# Altium integrated library Altium_SMD_Resister.IntLib: 493 symbols (part 4 of 8)
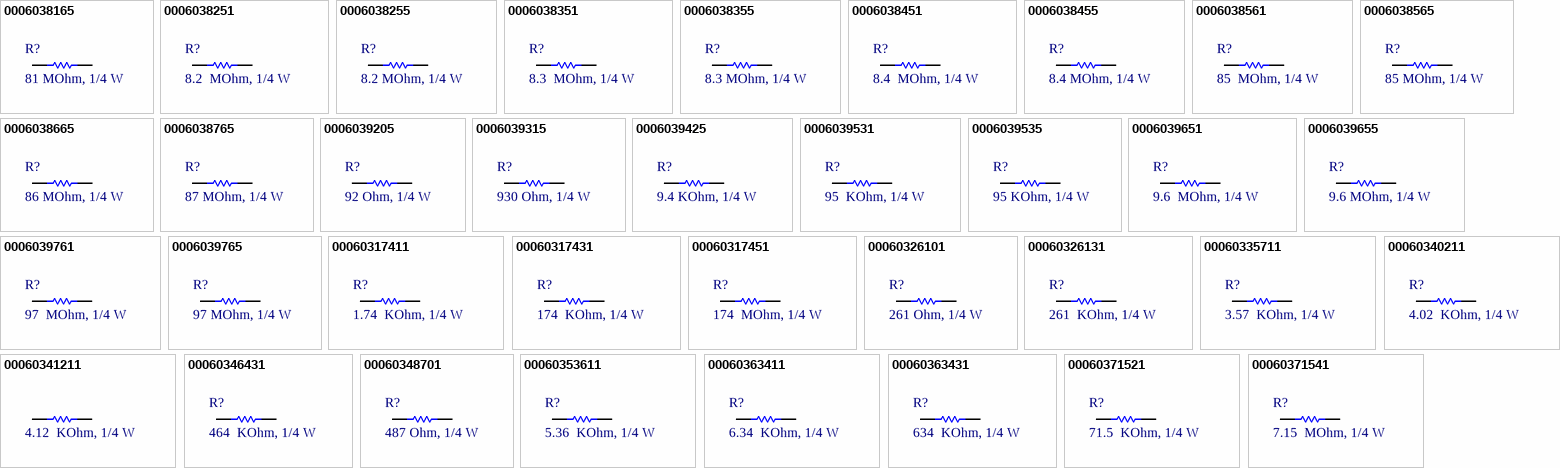
[diagram p15: symbols 0006038165 to 00060371541]

## 0006038455
designator R?, comment 8.4 MOhm, 1/4 W
RES, size 0805, 8.4 MOhm, 1/4 W; Manufacture  Name: OEM; Rated Power: 1/4 W; Resistance Tolerant: +/-5%; Size: 0603; Mounting Technology: SMT; Datasheet: N/A; Resistance: 8.4 MOhm; Supplier 1 Name: Mouser; Supplier 1 SN: N/A; Supplier 1 URL: N/A; Supplier 2 Name: Digi-Key; Supplier 2 SN: N/A; Supply 2 URL: N/A; Supplier 3 Name: Thegioiic; Supplier 3 SN: N/A; Supplier 3 URL: N/A; Manufacture  SN: OEM; Value: 8.4 MOhm, 1/4 W
footprint resistor_0603
pins: 1, 2

## 0006038561
designator R?, comment 85  MOhm, 1/4 W
RES, size 0805, 85  MOhm, 1/4 W; Manufacture  Name: OEM; Rated Power: 1/4 W; Resistance: 85  MOhm; Resistance Tolerant: +/-1%; Size: 0603; Mounting Technology: SMT; Datasheet: N/A; Supplier 1 Name: Mouser; Supplier 1 SN: N/A; Supplier 1 URL: N/A; Supplier 2 Name: Digi-Key; Supplier 2 SN: N/A; Supply 2 URL: N/A; Supplier 3 Name: Thegioiic; Supplier 3 SN: N/A; Supplier 3 URL: N/A; Manufacture  SN: OEM; Value: 85  MOhm, 1/4 W
footprint resistor_0603
pins: 1, 2

## 0006038565
designator R?, comment 85 MOhm, 1/4 W
RES, size 0805, 85 MOhm, 1/4 W; Manufacture  Name: OEM; Rated Power: 1/4 W; Resistance: 85 MOhm; Resistance Tolerant: +/-5%; Size: 0603; Mounting Technology: SMT; Datasheet: N/A; Supplier 1 Name: Mouser; Supplier 1 SN: N/A; Supplier 1 URL: N/A; Supplier 2 Name: Digi-Key; Supplier 2 SN: N/A; Supply 2 URL: N/A; Supplier 3 Name: Thegioiic; Supplier 3 SN: N/A; Supplier 3 URL: N/A; Manufacture  SN: OEM; Value: 85 MOhm, 1/4 W
footprint resistor_0603
pins: 1, 2

## 0006038665
designator R?, comment 86 MOhm, 1/4 W
RES, size 0805, 86 MOhm, 1/4 W; Manufacture  Name: OEM; Rated Power: 1/4 W; Resistance: 86 MOhm; Resistance Tolerant: +/-5%; Size: 0603; Mounting Technology: SMT; Datasheet: N/A; Supplier 1 Name: Mouser; Supplier 1 SN: N/A; Supplier 1 URL: N/A; Supplier 2 Name: Digi-Key; Supplier 2 SN: N/A; Supply 2 URL: N/A; Supplier 3 Name: Thegioiic; Supplier 3 SN: N/A; Supplier 3 URL: N/A; Manufacture  SN: OEM; Value: 86 MOhm, 1/4 W
footprint resistor_0603
pins: 1, 2

## 0006038765
designator R?, comment 87 MOhm, 1/4 W
RES, size 0805, 87 MOhm, 1/4 W; Manufacture  Name: OEM; Rated Power: 1/4 W; Resistance: 87 MOhm; Resistance Tolerant: +/-5%; Size: 0603; Mounting Technology: SMT; Datasheet: N/A; Supplier 1 Name: Mouser; Supplier 1 SN: N/A; Supplier 1 URL: N/A; Supplier 2 Name: Digi-Key; Supplier 2 SN: N/A; Supply 2 URL: N/A; Supplier 3 Name: Thegioiic; Supplier 3 SN: N/A; Supplier 3 URL: N/A; Manufacture  SN: OEM; Value: 87 MOhm, 1/4 W
footprint resistor_0603
pins: 1, 2

## 0006039205
designator R?, comment 92 Ohm, 1/4 W
RES, size 0805, 92 Ohm, 1/4 W; Manufacture  Name: OEM; Rated Power: 1/4 W; Resistance: 92 Ohm; Resistance Tolerant: +/-5%; Size: 0603; Mounting Technology: SMT; Datasheet: N/A; Supplier 1 Name: Mouser; Supplier 1 SN: N/A; Supplier 1 URL: N/A; Supplier 2 Name: Digi-Key; Supplier 2 SN: N/A; Supply 2 URL: N/A; Supplier 3 Name: Thegioiic; Supplier 3 SN: N/A; Supplier 3 URL: N/A; Manufacture  SN: OEM; Value: 92 Ohm, 1/4 W
footprint resistor_0603
pins: 1, 2

## 0006039315
designator R?, comment 930 Ohm, 1/4 W
RES, size 0805, 930 Ohm, 1/4 W; Manufacture  Name: OEM; Rated Power: 1/4 W; Resistance: 930 Ohm; Resistance Tolerant: +/-5%; Size: 0603; Mounting Technology: SMT; Datasheet: N/A; Supplier 1 Name: Mouser; Supplier 1 SN: N/A; Supplier 1 URL: N/A; Supplier 2 Name: Digi-Key; Supplier 2 SN: N/A; Supply 2 URL: N/A; Supplier 3 Name: Thegioiic; Supplier 3 SN: N/A; Supplier 3 URL: N/A; Manufacture  SN: OEM; Value: 930 Ohm, 1/4 W
footprint resistor_0603
pins: 1, 2

## 0006039425
designator R?, comment 9.4 KOhm, 1/4 W
RES, size 0805, 9.4 KOhm, 1/4 W; Manufacture  Name: OEM; Rated Power: 1/4 W; Resistance Tolerant: +/-5%; Size: 0603; Mounting Technology: SMT; Datasheet: N/A; Resistance: 9.4 KOhm; Supplier 1 Name: Mouser; Supplier 1 SN: N/A; Supplier 1 URL: N/A; Supplier 2 Name: Digi-Key; Supplier 2 SN: N/A; Supply 2 URL: N/A; Supplier 3 Name: Thegioiic; Supplier 3 SN: N/A; Supplier 3 URL: N/A; Manufacture  SN: OEM; Value: 9.4 KOhm, 1/4 W
footprint resistor_0603
pins: 1, 2

## 0006039531
designator R?, comment 95  KOhm, 1/4 W
RES, size 0805, 95  KOhm, 1/4 W; Manufacture  Name: OEM; Rated Power: 1/4 W; Resistance: 95  KOhm; Resistance Tolerant: +/-1%; Size: 0603; Mounting Technology: SMT; Datasheet: N/A; Supplier 1 Name: Mouser; Supplier 1 SN: N/A; Supplier 1 URL: N/A; Supplier 2 Name: Digi-Key; Supplier 2 SN: N/A; Supply 2 URL: N/A; Supplier 3 Name: Thegioiic; Supplier 3 SN: N/A; Supplier 3 URL: N/A; Manufacture  SN: OEM; Value: 95  KOhm, 1/4 W
footprint resistor_0603
pins: 1, 2

## 0006039535
designator R?, comment 95 KOhm, 1/4 W
RES, size 0805, 95 KOhm, 1/4 W; Manufacture  Name: OEM; Rated Power: 1/4 W; Resistance: 95 KOhm; Resistance Tolerant: +/-5%; Size: 0603; Mounting Technology: SMT; Datasheet: N/A; Supplier 1 Name: Mouser; Supplier 1 SN: N/A; Supplier 1 URL: N/A; Supplier 2 Name: Digi-Key; Supplier 2 SN: N/A; Supply 2 URL: N/A; Supplier 3 Name: Thegioiic; Supplier 3 SN: N/A; Supplier 3 URL: N/A; Manufacture  SN: OEM; Value: 95 KOhm, 1/4 W
footprint resistor_0603
pins: 1, 2

## 0006039651
designator R?, comment 9.6  MOhm, 1/4 W
RES, size 0805, 9.6  MOhm, 1/4 W; Manufacture  Name: OEM; Rated Power: 1/4 W; Resistance Tolerant: +/-1%; Size: 0603; Mounting Technology: SMT; Datasheet: N/A; Resistance: 9.6  MOhm; Supplier 1 Name: Mouser; Supplier 1 SN: N/A; Supplier 1 URL: N/A; Supplier 2 Name: Digi-Key; Supplier 2 SN: N/A; Supply 2 URL: N/A; Supplier 3 Name: Thegioiic; Supplier 3 SN: N/A; Supplier 3 URL: N/A; Manufacture  SN: OEM; Value: 9.6  MOhm, 1/4 W
footprint resistor_0603
pins: 1, 2

## 0006039655
designator R?, comment 9.6 MOhm, 1/4 W
RES, size 0805, 9.6 MOhm, 1/4 W; Manufacture  Name: OEM; Rated Power: 1/4 W; Resistance Tolerant: +/-5%; Size: 0603; Mounting Technology: SMT; Datasheet: N/A; Resistance: 9.6 MOhm; Supplier 1 Name: Mouser; Supplier 1 SN: N/A; Supplier 1 URL: N/A; Supplier 2 Name: Digi-Key; Supplier 2 SN: N/A; Supply 2 URL: N/A; Supplier 3 Name: Thegioiic; Supplier 3 SN: N/A; Supplier 3 URL: N/A; Manufacture  SN: OEM; Value: 9.6 MOhm, 1/4 W
footprint resistor_0603
pins: 1, 2

## 0006039761
designator R?, comment 97  MOhm, 1/4 W
RES, size 0805, 97  MOhm, 1/4 W; Manufacture  Name: OEM; Rated Power: 1/4 W; Resistance: 97  MOhm; Resistance Tolerant: +/-1%; Size: 0603; Mounting Technology: SMT; Datasheet: N/A; Supplier 1 Name: Mouser; Supplier 1 SN: N/A; Supplier 1 URL: N/A; Supplier 2 Name: Digi-Key; Supplier 2 SN: N/A; Supply 2 URL: N/A; Supplier 3 Name: Thegioiic; Supplier 3 SN: N/A; Supplier 3 URL: N/A; Manufacture  SN: OEM; Value: 97  MOhm, 1/4 W
footprint resistor_0603
pins: 1, 2

## 0006039765
designator R?, comment 97 MOhm, 1/4 W
RES, size 0805, 97 MOhm, 1/4 W; Manufacture  Name: OEM; Rated Power: 1/4 W; Resistance: 97 MOhm; Resistance Tolerant: +/-5%; Size: 0603; Mounting Technology: SMT; Datasheet: N/A; Supplier 1 Name: Mouser; Supplier 1 SN: N/A; Supplier 1 URL: N/A; Supplier 2 Name: Digi-Key; Supplier 2 SN: N/A; Supply 2 URL: N/A; Supplier 3 Name: Thegioiic; Supplier 3 SN: N/A; Supplier 3 URL: N/A; Manufacture  SN: OEM; Value: 97 MOhm, 1/4 W
footprint resistor_0603
pins: 1, 2

## 00060317411
designator R?, comment 1.74  KOhm, 1/4 W
RES, size 0805, 1.74  KOhm, 1/4 W; Manufacture  Name: OEM; Rated Power: 1/4 W; Resistance Tolerant: +/-1%; Size: 0603; Mounting Technology: SMT; Datasheet: N/A; Resistance: 1.74  KOhm; Supplier 1 Name: Mouser; Supplier 1 SN: 652-CR0603FX-1741ELF; Supplier 1 URL: https://www.mouser.vn/ProductDetail/Bourns/CR0603-FX-1741ELF?qs=zx2075yZkZJRxafDX05PxQ%3D%3D; Supplier 2 Name: Digi-Key; Supplier 2 SN: 311-1.74KHRTR-ND; Supply 2 URL: https://www.digikey.com/en/products/detail/yageo/RC0603FR-071K74L/726872; Supplier 3 Name: Thegioiic; Supplier 3 SN: N/A; Supplier 3 URL: N/A; Manufacture  SN: OEM; Value: 1.74  KOhm, 1/4 W
footprint resistor_0603
pins: 1, 2

## 00060317431
designator R?, comment 174  KOhm, 1/4 W
RES, size 0805, 174  KOhm, 1/4 W; Manufacture  Name: OEM; Rated Power: 1/4 W; Resistance Tolerant: +/-1%; Size: 0603; Mounting Technology: SMT; Datasheet: N/A; Resistance: 174  KOhm; Supplier 1 Name: Mouser; Supplier 1 SN: 652-CR0603FX-1743ELF; Supplier 1 URL: https://www.mouser.vn/ProductDetail/Bourns/CR0603-FX-1743ELF?qs=zx2075yZkZJGZPfH16YNVA%3D%3D; Supplier 2 Name: Digi-Key; Supplier 2 SN: 311-174KHRTR-ND; Supply 2 URL: https://www.digikey.com/en/products/detail/yageo/RC0603FR-07174KL/726985; Supplier 3 Name: Thegioiic; Supplier 3 SN: N/A; Supplier 3 URL: N/A; Manufacture  SN: OEM; Value: 174  KOhm, 1/4 W
footprint resistor_0603
pins: 1, 2

## 00060317451
designator R?, comment 174  MOhm, 1/4 W
RES, size 0805, 174  MOhm, 1/4 W; Manufacture  Name: OEM; Rated Power: 1/4 W; Resistance Tolerant: +/-1%; Size: 0603; Mounting Technology: SMT; Datasheet: N/A; Resistance: 174  MOhm; Supplier 1 Name: Mouser; Supplier 1 SN: 303-0603WAF1745T5E; Supplier 1 URL: https://www.mouser.vn/ProductDetail/Royalohm/0603WAF1745T5E?qs=e8oIoAS2J1TZruGg9o9nsw%3D%3D; Supplier 2 Name: Digi-Key; Supplier 2 SN: N/A; Supply 2 URL: N/A; Supplier 3 Name: Thegioiic; Supplier 3 SN: N/A; Supplier 3 URL: N/A; Manufacture  SN: OEM; Value: 174  MOhm, 1/4 W
footprint resistor_0603
pins: 1, 2

## 00060326101
designator R?, comment 261 Ohm, 1/4 W
RES, size 0805, 261 Ohm, 1/4 W; Manufacture  Name: OEM; Rated Power: 1/4 W; Resistance: 261 Ohm; Resistance Tolerant: +/-1%; Size: 0603; Mounting Technology: SMT; Datasheet: N/A; Supplier 1 Name: Mouser; Supplier 1 SN: 652-CR0603FX-2610ELF; Supplier 1 URL: https://www.mouser.vn/ProductDetail/Bourns/CR0603-FX-2610ELF?qs=I4suiNu8FYAPozqcSssc3g%3D%3D; Supplier 2 Name: Digi-Key; Supplier 2 SN: 311-261HRTR-ND; Supply 2 URL: https://www.digikey.com/en/products/detail/yageo/RC0603FR-07261RL/727095; Supplier 3 Name: Thegioiic; Supplier 3 SN: N/A; Supplier 3 URL: N/A; Manufacture  SN: OEM; Value: 261 Ohm, 1/4 W
footprint resistor_0603
pins: 1, 2

## 00060326131
designator R?, comment 261  KOhm, 1/4 W
RES, size 0805, 261  KOhm, 1/4 W; Manufacture  Name: OEM; Rated Power: 1/4 W; Resistance Tolerant: +/-1%; Size: 0603; Mounting Technology: SMT; Datasheet: N/A; Resistance: 261  KOhm; Supplier 1 Name: Mouser; Supplier 1 SN: 71-CRCW0603-261K-E3; Supplier 1 URL: https://www.mouser.vn/ProductDetail/Vishay-Dale/CRCW0603261KFKEA?qs=ZY%2FA15UmqnC8j%252BzPQatghA%3D%3D; Supplier 2 Name: Digi-Key; Supplier 2 SN: 311-261KHRTR-ND; Supply 2 URL: https://www.digikey.com/en/products/detail/yageo/RC0603FR-07261KL/727096; Supplier 3 Name: Thegioiic; Supplier 3 SN: N/A; Supplier 3 URL: N/A; Manufacture  SN: OEM; Value: 261  KOhm, 1/4 W
footprint resistor_0603
pins: 1, 2

## 00060335711
designator R?, comment 3.57  KOhm, 1/4 W
RES, size 0805, 3.57  KOhm, 1/4 W; Manufacture  Name: OEM; Rated Power: 1/4 W; Resistance Tolerant: +/-1%; Size: 0603; Mounting Technology: SMT; Datasheet: N/A; Resistance: 3.57  KOhm; Supplier 1 Name: Mouser; Supplier 1 SN: 755-SDR03EZPF3571; Supplier 1 URL: https://www.mouser.vn/ProductDetail/ROHM-Semiconductor/SDR03EZPF3571?qs=MyNHzdoqoQLQWlSf8qqG2w%3D%3D; Supplier 2 Name: Digi-Key; Supplier 2 SN: 311-3.57KHRTR-ND; Supply 2 URL: https://www.digikey.com/en/products/detail/yageo/RC0603FR-073K57L/727131; Supplier 3 Name: Thegioiic; Supplier 3 SN: N/A; Supplier 3 URL: N/A; Manufacture  SN: OEM; Value: 3.57  KOhm, 1/4 W
footprint resistor_0603
pins: 1, 2

## 00060340211
designator R?, comment 4.02  KOhm, 1/4 W
RES, size 0805, 4.02  KOhm, 1/4 W; Manufacture  Name: OEM; Rated Power: 1/4 W; Resistance Tolerant: +/-1%; Size: 0603; Mounting Technology: SMT; Datasheet: N/A; Resistance: 4.02  KOhm; Supplier 1 Name: Mouser; Supplier 1 SN: 71-CRCW0603-4.02K-E3; Supplier 1 URL: https://www.mouser.vn/ProductDetail/Vishay-Dale/CRCW06034K02FKEA?qs=ePVmox3SMzYmoL%252BtsFsAuw%3D%3D; Supplier 2 Name: Digi-Key; Supplier 2 SN: 311-4.02KHRTR-ND; Supply 2 URL: https://www.digikey.com/en/products/detail/yageo/RC0603FR-074K02L/727203; Supplier 3 Name: Thegioiic; Supplier 3 SN: N/A; Supplier 3 URL: N/A; Manufacture  SN: OEM; Value: 4.02  KOhm, 1/4 W
footprint resistor_0603
pins: 1, 2

## 00060341211
designator ?, comment 4.12  KOhm, 1/4 W
RES, size 0805, 4.12  KOhm, 1/4 W; Manufacture  Name: OEM; Rated Power: 1/4 W; Resistance Tolerant: +/-1%; Size: 0603; Mounting Technology: SMT; Datasheet: N/A; Resistance: 4.12  KOhm; Supplier 1 Name: Mouser; Supplier 1 SN: 71-CRCW0603-4.12K-E3; Supplier 1 URL: https://www.mouser.vn/ProductDetail/Vishay-Dale/CRCW06034K12FKEA?qs=7VR27ARAOdnkRSfILZFcCQ%3D%3D; Supplier 2 Name: Digi-Key; Supplier 2 SN: 311-4.02KHRTR-ND; Supply 2 URL: https://www.digikey.com/en/products/detail/yageo/RC0603FR-074K02L/727203; Supplier 3 Name: Thegioiic; Supplier 3 SN: N/A; Supplier 3 URL: N/A; Manufacture  SN: OEM; Value: 4.12  KOhm, 1/4 W
footprint resistor_0603
pins: 1, 2

## 00060346431
designator R?, comment 464  KOhm, 1/4 W
RES, size 0805, 464  KOhm, 1/4 W; Manufacture  Name: OEM; Rated Power: 1/4 W; Resistance Tolerant: +/-1%; Size: 0603; Mounting Technology: SMT; Datasheet: https://www.mouser.vn/datasheet/2/315/AOA0000C331-1141874.pdf; Resistance: 464  KOhm; Supplier 1 Name: Mouser; Supplier 1 SN: 667-ERJ-PA3F4643V; Supplier 1 URL: https://www.mouser.vn/ProductDetail/Panasonic/ERJ-PA3F4643V?qs=BzJM0faLVqXNplNA4jO3ww%3D%3D; Supplier 2 Name: Digi-Key; Supplier 2 SN: ERJ-PA3F4643V-ND - Tape & Reel (TR); Supply 2 URL: https://www.digikey.com/en/products/detail/panasonic-electronic-components/ERJ-PA3F4643V/5038117?s=N4IgTCBcDaIGxwOwFoCiAlAUsgCgQQGYAxAFjhIIDUQBdAXyA; Supplier 3 Name: Thegioiic; Supplier 3 SN: N/A; Supplier 3 URL: N/A; Manufacture  SN: OEM; Value: 464  KOhm, 1/4 W
footprint resistor_0603
pins: 1, 2

## 00060348701
designator R?, comment 487 Ohm, 1/4 W
RES, size 0805, 487 Ohm, 1/4 W; Manufacture  Name: OEM; Rated Power: 1/4 W; Resistance: 487 Ohm; Resistance Tolerant: +/-1%; Size: 0603; Mounting Technology: SMT; Datasheet: https://www.mouser.vn/datasheet/2/315/AOA0000C331-1141874.pdf; Supplier 1 Name: Mouser; Supplier 1 SN: 667-ERJ-PA3F4870V; Supplier 1 URL: https://www.mouser.vn/ProductDetail/Panasonic/ERJ-PA3F4870V?qs=BzJM0faLVqXoF%252BFTbHdjOQ%3D%3D; Supplier 2 Name: Digi-Key; Supplier 2 SN: ERJ-PA3F4870V-ND - Tape & Reel (TR); Supply 2 URL: https://www.digikey.com/en/products/detail/panasonic-electronic-components/ERJ-PA3F4870V/5037849?s=N4IgTCBcDaIGxwOwFoCiAlAUsgCgQQGYAxAFgA5EAGANRAF0BfIA; Supplier 3 Name: Thegioiic; Supplier 3 SN: N/A; Supplier 3 URL: N/A; Manufacture  SN: OEM; Value: 487 Ohm, 1/4 W
footprint resistor_0603
pins: 1, 2

## 00060353611
designator R?, comment 5.36  KOhm, 1/4 W
RES, size 0805, 5.36  KOhm, 1/4 W; Manufacture  Name: OEM; Rated Power: 1/4 W; Resistance Tolerant: +/-1%; Size: 0603; Mounting Technology: SMT; Datasheet: https://www.mouser.vn/datasheet/2/315/AOA0000C331-1141874.pdf; Resistance: 5.36  KOhm; Supplier 1 Name: Mouser; Supplier 1 SN: 667-ERJ-PA3F5361V; Supplier 1 URL: https://www.mouser.vn/ProductDetail/Panasonic/ERJ-PA3F5361V?qs=BzJM0faLVqV9HycZG6PMVQ%3D%3D; Supplier 2 Name: Digi-Key; Supplier 2 SN: ERJ-PA3F5361V-ND - Tape & Reel (TR); Supply 2 URL: https://www.digikey.com/en/products/detail/panasonic-electronic-components/ERJ-PA3F5361V/5037943?s=N4IgTCBcDaIGxwOwFoCiAlAUsgCgQQGYAxAVgLgEYA1EAXQF8g; Supplier 3 Name: Thegioiic; Supplier 3 SN: N/A; Supplier 3 URL: N/A; Manufacture  SN: OEM; Value: 5.36  KOhm, 1/4 W
footprint resistor_0603
pins: 1, 2

## 00060363411
designator R?, comment 6.34  KOhm, 1/4 W
RES, size 0805, 6.34  KOhm, 1/4 W; Manufacture  Name: OEM; Rated Power: 1/4 W; Resistance Tolerant: +/-1%; Size: 0603; Mounting Technology: SMT; Datasheet: N/A; Resistance: 6.34  KOhm; Supplier 1 Name: Mouser; Supplier 1 SN: 652-CR0805FX-6341ELF; Supplier 1 URL: https://www.mouser.vn/ProductDetail/Bourns/CR0805-FX-6341ELF?qs=LA9FZBosJlAK7SMOW8nAHg%3D%3D; Supplier 2 Name: Digi-Key; Supplier 2 SN: 311-6.34KHRTR-ND; Supply 2 URL: https://www.digikey.com/en/products/detail/yageo/RC0603FR-076K34L/727320; Supplier 3 Name: Thegioiic; Supplier 3 SN: N/A; Supplier 3 URL: N/A; Manufacture  SN: OEM; Value: 6.34  KOhm, 1/4 W
footprint resistor_0603
pins: 1, 2

## 00060363431
designator R?, comment 634  KOhm, 1/4 W
RES, size 0805, 634  KOhm, 1/4 W; Manufacture  Name: OEM; Rated Power: 1/4 W; Resistance Tolerant: +/-1%; Size: 0603; Mounting Technology: SMT; Datasheet: N/A; Resistance: 634  KOhm; Supplier 1 Name: Mouser; Supplier 1 SN: 652-CR0805FX-6343ELF; Supplier 1 URL: https://www.mouser.vn/ProductDetail/Bourns/CR0805-FX-6343ELF?qs=LA9FZBosJlBAKVRC2OUkqw%3D%3D; Supplier 2 Name: Digi-Key; Supplier 2 SN: 311-634KHRTR-ND; Supply 2 URL: https://www.digikey.com/en/products/detail/yageo/RC0603FR-07634KL/727342; Supplier 3 Name: Thegioiic; Supplier 3 SN: N/A; Supplier 3 URL: N/A; Manufacture  SN: OEM; Value: 634  KOhm, 1/4 W
footprint resistor_0603
pins: 1, 2

## 00060371521
designator R?, comment 71.5  KOhm, 1/4 W
RES, size 0805, 71.5  KOhm, 1/4 W; Manufacture  Name: OEM; Rated Power: 1/4 W; Resistance Tolerant: +/-1%; Size: 0603; Mounting Technology: SMT; Datasheet: N/A; Resistance: 71.5  KOhm; Supplier 1 Name: Mouser; Supplier 1 SN: N/A; Supplier 1 URL: N/A; Supplier 2 Name: Digi-Key; Supplier 2 SN: 311-71.5KHRTR-ND; Supply 2 URL: https://www.digikey.com/en/products/detail/yageo/RC0603FR-0771K5L/727370; Supplier 3 Name: Thegioiic; Supplier 3 SN: N/A; Supplier 3 URL: N/A; Manufacture  SN: OEM; Value: 71.5  KOhm, 1/4 W
footprint resistor_0603
pins: 1, 2

## 00060371541
designator R?, comment 7.15  MOhm, 1/4 W
RES, size 0805, 7.15  MOhm, 1/4 W; Manufacture  Name: OEM; Rated Power: 1/4 W; Resistance Tolerant: +/-1%; Size: 0603; Mounting Technology: SMT; Datasheet: N/A; Resistance: 7.15  MOhm; Supplier 1 Name: Mouser; Supplier 1 SN: 603-RC0201FR-077M15L; Supplier 1 URL: https://www.mouser.vn/ProductDetail/YAGEO/RC0201FR-077M15L?qs=lc2O%252BfHJPVagYgggyyCiyg%3D%3D; Supplier 2 Name: Digi-Key; Supplier 2 SN: 541-7.15MHTR-ND; Supply 2 URL: https://www.digikey.com/en/products/detail/vishay-dale/CRCW06037M15FKEA/1175108; Supplier 3 Name: Thegioiic; Supplier 3 SN: N/A; Supplier 3 URL: N/A; Manufacture  SN: OEM; Value: 7.15  MOhm, 1/4 W
footprint resistor_0603
pins: 1, 2


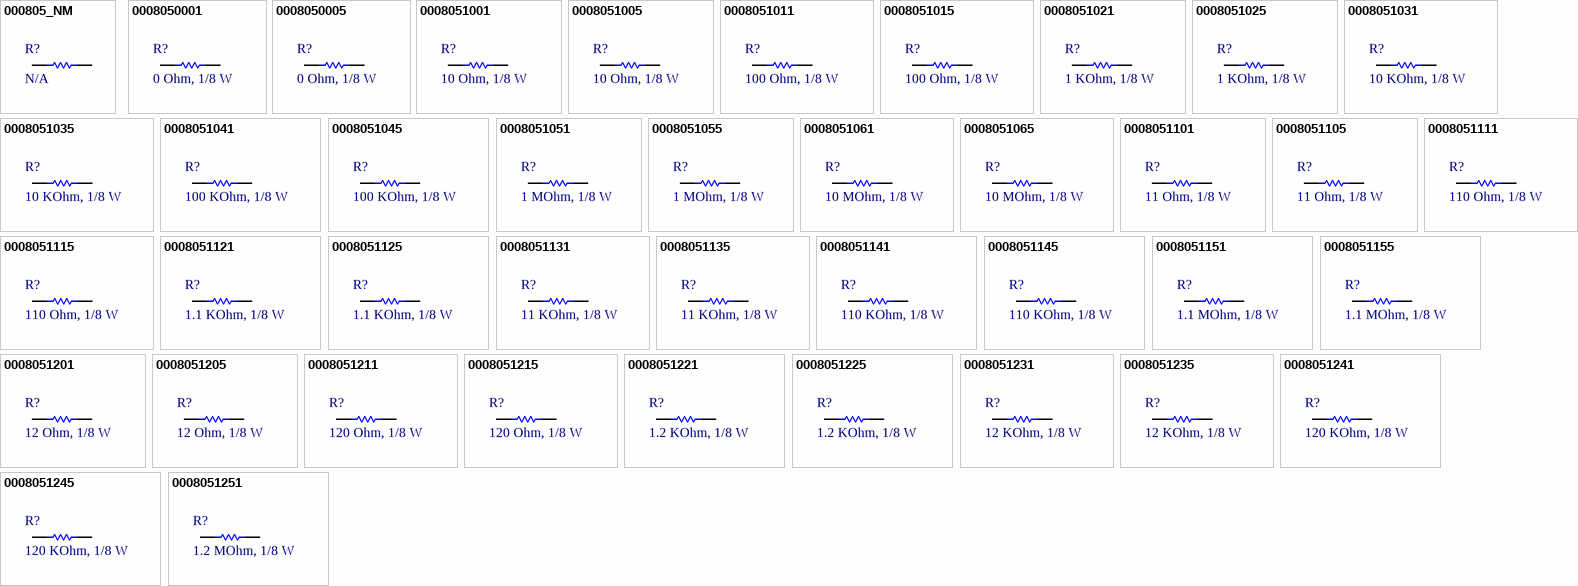
[diagram p6: symbols 000805_NM to 0008051251]

## 000805_NM
designator R?, comment N/A
RES, size 0805, NM; Rated Power: 1/8 W; Resistance tolerance: N/A; Size: 0805; Mounting Technology: SMT; Datasheet: N/A; Resistance: N/A; Supplier 1 Name: Mouser; Supplier 1 SN: N/A; Supplier 1 URL: N/A; Supplier 2 Name: Digi-Key; Supplier 2 SN: N/A; Supplier 2 URL: N/A; Supplier 3 Name: Thegioiic; Supplier 3 SN: N/A; Supplier 3 URL: N/A; Manufacture  Name: N/A; Manufacture  SN: N/A; Value: N/A
footprint RESISTOR_0805 (Chip Resistor, 2-Leads, Body 2,00x1,20mm, IPC Medium Density)
pins: 1, 2

## 0008050001
designator R?, comment 0 Ohm, 1/8 W
RES, size 0805, 0 Ohm, 1/8 W; Manufacture  Name: YAGEO; Manufacture  SN: RC0805FR-070RL; Resistance tolerance: +/-1%; Rated Power: 1/8 W; Resistance: 0 Ohm; Size: 0805; Mounting Technology: SMT; Datasheet: N/A; Supplier 1 Name: Mouser; Supplier 1 SN: 603-RC0805FR-070RL; Supplier 1 URL: https://www.mouser.com/ProductDetail/YAGEO/RC0805FR-070RL?qs=fRxXYNj8ftF6kXqh1XbZJQ%3D%3D; Supplier 2 Name: Digi-Key; Supplier 2 SN: 311-0.0CRTR-ND; Supplier 2 URL: https://www.digikey.com/en/products/detail/yageo/rc0805fr-070rl/2827620; Supplier 3 Name: Thegioiic; Supplier 3 SN: N/A; Supplier 3 URL: https://www.thegioiic.com/dien-tro-0-ohm-0805-1-; Value: 0 Ohm, 1/8 W
footprint RESISTOR_0805 (Chip Resistor, 2-Leads, Body 2,00x1,20mm, IPC Medium Density)
pins: 1, 2

## 0008050005
designator R?, comment 0 Ohm, 1/8 W
RES, size 0805, 0 Ohm, 1/8 W; Manufacture  Name: YAGEO; Manufacture  SN: RC0805JR-070RL; Resistance tolerance: +/-1%; Rated Power: 1/8 W; Resistance: 0 Ohm; Size: 0805; Mounting Technology: SMT; Datasheet: https://www.mouser.com/datasheet/2/447/PYu_AR_51_RoHS_L_7-3003081.pdf; Supplier 1 Name: Mouser; Supplier 1 SN: 603-RC0805JR-070RL; Supplier 1 URL: https://www.mouser.com/ProductDetail/YAGEO/RC0805JR-070RL?qs=3ldFlDWnkKyEhdaPjQHEFA%3D%3D; Supplier 2 Name: Digi-Key; Supplier 2 SN: 311-0.0ARTR-ND; Supplier 2 URL: https://www.digikey.com/en/products/detail/yageo/rc0805jr-070rl/728216; Supplier 3 Name: Thegioiic; Supplier 3 SN: N/A; Supplier 3 URL: https://www.thegioiic.com/dien-tro-0-ohm-0805-5-; Value: 0 Ohm, 1/8 W
footprint RESISTOR_0805 (Chip Resistor, 2-Leads, Body 2,00x1,20mm, IPC Medium Density)
pins: 1, 2

## 0008051001
designator R?, comment 10 Ohm, 1/8 W
RES, size 0805, 10 Ohm, 1/8 W; Manufacture  Name: Vishay Dale Thin Film; Manufacture  SN: M55342H06B10D0RT5; Resistance tolerance: +/-1%; Rated Power: 1/8 W; Resistance: 10 Ohm; Size: 0805; Mounting Technology: SMT; Datasheet: https://www.vishay.com/docs/60018/eh.pdf; Supplier 1 Name: Mouser; Supplier 1 SN: 71-CRCW080510R0FKEAH; Supplier 1 URL: https://www.mouser.vn/ProductDetail/Vishay-Dale/CRCW080510R0FKEAHP?qs=sGAEpiMZZMtlubZbdhIBIB2QTI7Ai3Wq221SUXRDybo%3D; Supplier 2 Name: Digi-Key; Supplier 2 SN: 764-M55342H06B10D0RT5TR-ND; Supplier 2 URL: https://www.digikey.com/en/products/detail/vishay-dale-thin-film/M55342H06B10D0RT5/3580812; Supplier 3 Name: Thegioiic; Supplier 3 SN: N/A; Supplier 3 URL: https://www.thegioiic.com/dien-tro-10-ohm-0805-1-; Value: 10 Ohm, 1/8 W
footprint RESISTOR_0805 (Chip Resistor, 2-Leads, Body 2,00x1,20mm, IPC Medium Density)
pins: 1, 2

## 0008051005
designator R?, comment 10 Ohm, 1/8 W
RES, size 0805, 10 Ohm, 1/8 W; Manufacture  Name: TE Connectivity Passive Product; Manufacture  SN: CRGCQ0805J10R; Resistance tolerance: +/-5%; Rated Power: 1/8 W; Resistance: 10 Ohm; Size: 0805; Mounting Technology: SMT; Datasheet: https://www.te.com/usa-en/product-2176342-7.datasheet.pdf; Supplier 1 Name: Mouser; Supplier 1 SN: 71-CRCW080510R0JNEB; Supplier 1 URL: https://www.mouser.vn/ProductDetail/Vishay-Dale/CRCW080510R0JNEB?qs=LOX6nxTstiYdzgklIYN6GQ%3D%3D; Supplier 2 Name: Digi-Key; Supplier 2 SN: A130122TR-ND; Supplier 2 URL: https://www.digikey.com/en/products/detail/vishay-dale-thin-film/M55342H06B10D0RT5/3580812; Supplier 3 Name: Thegioiic; Supplier 3 SN: N/A; Supplier 3 URL: https://www.thegioiic.com/dien-tro-10-ohm-0805-5-; Value: 10 Ohm, 1/8 W
footprint RESISTOR_0805 (Chip Resistor, 2-Leads, Body 2,00x1,20mm, IPC Medium Density)
pins: 1, 2

## 0008051011
designator R?, comment 100 Ohm, 1/8 W
RES, size 0805, 100 Ohm, 1/8 W; Manufacture  Name: Vishay Dale Thin Film; Manufacture  SN: CRCW0805100RFKEB; Resistance tolerance: +/-1%; Rated Power: 1/8 W; Resistance: 100 Ohm; Size: 0805; Mounting Technology: SMT; Datasheet: https://media.digikey.com/pdf/Data%20Sheets/Vishay%20Resistors/VSMP_Series_Z_Series_DS.pdf; Supplier 1 Name: Mouser; Supplier 1 SN: 71-CRCW0805100RFKEB; Supplier 1 URL: https://www.mouser.vn/ProductDetail/Vishay-Dale/CRCW0805100RFKEB?qs=sGAEpiMZZMtlubZbdhIBIKpw3Cj3Rl3MFHVHXIgVmtw%3D; Supplier 2 Name: Digi-Key; Supplier 2 SN: Y1624100R000F9R-ND; Supplier 2 URL: https://www.digikey.com/en/products/detail/vpg-foil-resistors/Y1624100R000F9R/6026579; Supplier 3 Name: Thegioiic; Supplier 3 SN: N/A; Supplier 3 URL: https://www.thegioiic.com/dien-tro-100-ohm-0805-1-; Value: 100 Ohm, 1/8 W
footprint RESISTOR_0805 (Chip Resistor, 2-Leads, Body 2,00x1,20mm, IPC Medium Density)
pins: 1, 2

## 0008051015
designator R?, comment 100 Ohm, 1/8 W
RES, size 0805, 100 Ohm, 1/8 W; Manufacture  Name: Vishay Dale; Manufacture  SN: CRCW0805100RJNEAC; Resistance tolerance: +/-5%; Rated Power: 1/8 W; Resistance: 100 Ohm; Size: 0805; Mounting Technology: SMT; Datasheet: https://www.vishay.com/docs/28773/crcwce3.pdf; Supplier 1 Name: Mouser; Supplier 1 SN: 71-CRCW0805100RJNEA; Supplier 1 URL: https://www.mouser.vn/ProductDetail/Vishay-Dale/CRCW0805100RJNEA?qs=LOX6nxTstiYU5x3Np6dR5Q%3D%3D; Supplier 2 Name: Digi-Key; Supplier 2 SN: 541-4166-2-ND; Supplier 2 URL: https://www.digikey.com/en/products/detail/vishay-dale/CRCW0805100RJNEAC/7928588; Supplier 3 Name: Thegioiic; Supplier 3 SN: N/A; Supplier 3 URL: https://www.thegioiic.com/dien-tro-100-ohm-0805-5; Value: 100 Ohm, 1/8 W
footprint RESISTOR_0805 (Chip Resistor, 2-Leads, Body 2,00x1,20mm, IPC Medium Density)
pins: 1, 2

## 0008051021
designator R?, comment 1 KOhm, 1/8 W
RES, size 0805, 1 KOhm, 1/8 W; Manufacture  Name: Vishay Dale; Manufacture  SN: M55342K06B1E00RS3; Resistance tolerance: +/-1%; Rated Power: 1/8 W; Resistance: 1 KOhm; Size: 0805; Mounting Technology: SMT; Datasheet: https://www.vishay.com/docs/31010/rcwpm.pdf; Supplier 1 Name: Mouser; Supplier 1 SN: N/A; Supplier 1 URL: N/A; Supplier 2 Name: Digi-Key; Supplier 2 SN: 1135-1001-2-ND; Supplier 2 URL: https://www.digikey.com/en/products/detail/vishay-dale/M55342K06B1E00RS3/2941798; Supplier 3 Name: Thegioiic; Supplier 3 SN: N/A; Supplier 3 URL: https://www.thegioiic.com/dien-tro-1-kohm-0805-1; Value: 1 KOhm, 1/8 W
footprint RESISTOR_0805 (Chip Resistor, 2-Leads, Body 2,00x1,20mm, IPC Medium Density)
pins: 1, 2

## 0008051025
designator R?, comment 1 KOhm, 1/8 W
RES, size 0805, 1 KOhm, 1/8 W; Manufacture  Name: Vishay Dale; Manufacture  SN: CRCW08051K00JNEAC; Resistance tolerance: +/-5%; Rated Power: 1/8 W; Resistance: 1 KOhm; Size: 0805; Mounting Technology: SMT; Datasheet: https://www.vishay.com/docs/28773/crcwce3.pdf; Supplier 1 Name: Mouser; Supplier 1 SN: 71-CRCW08051K00JNEC; Supplier 1 URL: https://www.mouser.vn/ProductDetail/Vishay-Dale/CRCW08051K00JNEC?qs=OW6ROCK%252BaiZqKFsNe9zjFw%3D%3D; Supplier 2 Name: Digi-Key; Supplier 2 SN: 541-4162-2-ND; Supplier 2 URL: https://www.digikey.com/en/products/detail/vishay-dale/CRCW08051K00JNEAC/7928584; Supplier 3 Name: Thegioiic; Supplier 3 SN: N/A; Supplier 3 URL: https://www.thegioiic.com/dien-tro-1-kohm-0805-5-; Value: 1 KOhm, 1/8 W
footprint RESISTOR_0805 (Chip Resistor, 2-Leads, Body 2,00x1,20mm, IPC Medium Density)
pins: 1, 2

## 0008051031
designator R?, comment 10 KOhm, 1/8 W
RES, size 0805, 10 KOhm, 1/8 W; Resistance tolerance: +/-1%; Rated Power: 1/8 W; Resistance: 10 KOhm; Size: 0805; Mounting Technology: SMT; Datasheet: N/A; Supplier 1 Name: Mouser; Supplier 1 SN: N/A; Supplier 1 URL: N/A; Supplier 2 Name: Digi-Key; Supplier 2 SN: N/A; Supplier 2 URL: N/A; Supplier 3 Name: Thegioiic; Supplier 3 SN: N/A; Supplier 3 URL: https://www.thegioiic.com/dien-tro-1-kohm-0805-1; Manufacture  Name: N/A; Manufacture  SN: N/A; Value: 10 KOhm, 1/8 W
footprint RESISTOR_0805 (Chip Resistor, 2-Leads, Body 2,00x1,20mm, IPC Medium Density)
pins: 1, 2

## 0008051035
designator R?, comment 10 KOhm, 1/8 W
RES, size 0805, 10 KOhm, 1/8 W; Manufacture  Name: Vishay Dale; Manufacture  SN: CRCW080510K0JNEAC; Resistance tolerance: +/-5%; Rated Power: 1/8 W; Resistance: 10 KOhm; Size: 0805; Mounting Technology: SMT; Datasheet: https://www.vishay.com/docs/28773/crcwce3.pdf; Supplier 1 Name: Mouser; Supplier 1 SN: 71-CRCW080510K0JNEB; Supplier 1 URL: https://www.mouser.vn/ProductDetail/Vishay-Dale/CRCW080510K0JNEB?qs=LOX6nxTstiZ5fn9YUdHx5A%3D%3D; Supplier 2 Name: Digi-Key; Supplier 2 SN: 541-4163-2-ND; Supplier 2 URL: https://www.digikey.com/en/products/detail/vishay-dale/CRCW080510K0JNEAC/7928585; Supplier 3 Name: Thegioiic; Supplier 3 SN: N/A; Supplier 3 URL: N/A; Value: 10 KOhm, 1/8 W
footprint RESISTOR_0805 (Chip Resistor, 2-Leads, Body 2,00x1,20mm, IPC Medium Density)
pins: 1, 2

## 0008051041
designator R?, comment 100 KOhm, 1/8 W
RES, size 0805, 100 KOhm, 1/8 W; Manufacture  Name: Vishay Dale; Manufacture  SN: M55342K06B100ERS3; Resistance tolerance: +/-1%; Rated Power: 1/8 W; Size: 0805; Mounting Technology: SMT; Datasheet: N/A; Resistance: 100 KOhm; Supplier 1 Name: Mouser; Supplier 1 SN: N/A; Supplier 1 URL: N/A; Supplier 2 Name: Digi-Key; Supplier 2 SN: 1135-1002-2-ND; Supplier 2 URL: https://www.digikey.com/en/products/detail/vishay-dale/M55342K06B100ERS3/2941800; Supplier 3 Name: Thegioiic; Supplier 3 SN: N/A; Supplier 3 URL: M55342K06B100ERS3; Value: 100 KOhm, 1/8 W
footprint RESISTOR_0805 (Chip Resistor, 2-Leads, Body 2,00x1,20mm, IPC Medium Density)
pins: 1, 2

## 0008051045
designator R?, comment 100 KOhm, 1/8 W
RES, size 0805, 100 KOhm, 1/8 W; Manufacture  Name: Vishay Dale; Manufacture  SN: CRCW0805100KJNEAC; Resistance tolerance: +/-5%; Rated Power: 1/8 W; Size: 0805; Mounting Technology: SMT; Datasheet: https://www.vishay.com/docs/28773/crcwce3.pdf; Resistance: 100 KOhm; Supplier 1 Name: Mouser; Supplier 1 SN: 71-CRCW0805100KJNEC; Supplier 1 URL: https://www.mouser.vn/ProductDetail/Vishay-Dale/CRCW0805100KJNEC?qs=waxnFHLl2hDcBYyAQZ2bVA%3D%3D; Supplier 2 Name: Digi-Key; Supplier 2 SN: 541-4164-2-ND; Supplier 2 URL: https://www.digikey.com/en/products/detail/vishay-dale/CRCW0805100KJNEAC/7928586; Supplier 3 Name: Thegioiic; Supplier 3 SN: N/A; Supplier 3 URL: M55342K06B100ERS3; Value: 100 KOhm, 1/8 W
footprint RESISTOR_0805 (Chip Resistor, 2-Leads, Body 2,00x1,20mm, IPC Medium Density)
pins: 1, 2

## 0008051051
designator R?, comment 1 MOhm, 1/8 W
RES, size 0805, 1 MOhm, 1/8 W; Manufacture  Name: Vishay Dale; Manufacture  SN: M55342K06B1F00RS3; Resistance tolerance: +/-1%; Rated Power: 1/8 W; Resistance: 1 MOhm; Size: 0805; Mounting Technology: SMT; Datasheet: N/A; Supplier 1 Name: Mouser; Supplier 1 SN: N/A; Supplier 1 URL: N/A; Supplier 2 Name: Digi-Key; Supplier 2 SN: 1135-1009-2-ND; Supplier 2 URL: https://www.digikey.com/en/products/detail/vishay-dale/M55342K06B1F00RS3/2941807?s=N4IgjCBcoMxaBjKAzAhgGwM4FMA0IB7KAbXDBggF18AHAFyhAGU6AnASwDsBzEAX3xgAbPBBJIaLHkIkQMAJwwATPJDUQ9Riw49%2B%2BACwjoYlBhz4ikUgA4A7MrW0GkZmy68BIJQAZrAVlFxSXMZK3AAAgBZAHkACwBbTEcNZxAAVU52OmjkSOxUTABXVmx%2BPj4gA; Supplier 3 Name: Thegioiic; Supplier 3 SN: N/A; Supplier 3 URL: https://www.thegioiic.com/dien-tro-1-mohm-0805-1; Value: 1 MOhm, 1/8 W
footprint RESISTOR_0805 (Chip Resistor, 2-Leads, Body 2,00x1,20mm, IPC Medium Density)
pins: 1, 2

## 0008051055
designator R?, comment 1 MOhm, 1/8 W
RES, size 0805, 1 MOhm, 1/8 W; Manufacture  Name: Vishay Dale; Manufacture  SN: CRCW08051M00JNEAC; Resistance tolerance: +/-5%; Rated Power: 1/8 W; Resistance: 1 MOhm; Size: 0805; Mounting Technology: SMT; Datasheet: https://www.vishay.com/docs/28773/crcwce3.pdf; Supplier 1 Name: Mouser; Supplier 1 SN: 71-CRCW0805J-1M-E3; Supplier 1 URL: https://www.mouser.vn/ProductDetail/Vishay-Dale/CRCW08051M00JNEA?qs=1CkV0QOCgMqcQMPfmcgFvg%3D%3D; Supplier 2 Name: Digi-Key; Supplier 2 SN: 541-CRCW08051M00JNEACTR-ND; Supplier 2 URL: https://www.digikey.com/en/products/detail/vishay-dale/CRCW08051M00JNEAC/7923683; Supplier 3 Name: Thegioiic; Supplier 3 SN: N/A; Supplier 3 URL: https://www.thegioiic.com/dien-tro-1-mohm-0805-5; Value: 1 MOhm, 1/8 W
footprint RESISTOR_0805 (Chip Resistor, 2-Leads, Body 2,00x1,20mm, IPC Medium Density)
pins: 1, 2

## 0008051061
designator R?, comment 10 MOhm, 1/8 W
RES, size 0805, 10 MOhm, 1/8 W; Manufacture  Name: Vishay Dale; Manufacture  SN: CRCW08051M00FKEAC; Resistance tolerance: +/-1%; Rated Power: 1/8 W; Resistance: 10 MOhm; Size: 0805; Mounting Technology: SMT; Datasheet: https://www.vishay.com/docs/28773/crcwce3.pdf; Supplier 1 Name: Mouser; Supplier 1 SN: N/A; Supplier 1 URL: N/A; Supplier 2 Name: Digi-Key; Supplier 2 SN: 541-4135-2-ND; Supplier 2 URL: https://www.digikey.com/en/products/detail/vishay-dale/CRCW08051M00FKEAC/7928557; Supplier 3 Name: Thegioiic; Supplier 3 SN: N/A; Supplier 3 URL: https://www.digikey.com/en/products/detail/vishay-dale/CRCW08051M00FKEAC/7928557; Value: 10 MOhm, 1/8 W
footprint RESISTOR_0805 (Chip Resistor, 2-Leads, Body 2,00x1,20mm, IPC Medium Density)
pins: 1, 2

## 0008051065
designator R?, comment 10 MOhm, 1/8 W
RES, size 0805, 10 MOhm, 1/8 W; Manufacture  Name: Vishay Dale; Manufacture  SN: CRCW080510M0JNEA; Resistance tolerance: +/-5%; Rated Power: 1/8 W; Resistance: 10 MOhm; Size: 0805; Mounting Technology: SMT; Datasheet: https://www.vishay.com/docs/20035/dcrcwe3.pdf; Supplier 1 Name: Mouser; Supplier 1 SN: 71-RCV080510M0JNEA; Supplier 1 URL: https://www.mouser.vn/ProductDetail/Vishay-Draloric/RCV080510M0JNEA?qs=%252BZJHVReOaHr6BtmMLn%2FzAw%3D%3D; Supplier 2 Name: Digi-Key; Supplier 2 SN: 541-10MATR-ND; Supplier 2 URL: https://www.digikey.com/en/products/detail/vishay-dale/CRCW080510M0JNEA/1175294; Supplier 3 Name: Thegioiic; Supplier 3 SN: N/A; Supplier 3 URL: https://www.digikey.com/en/products/detail/vishay-dale/CRCW080510M0JNEA/1175294; Value: 10 MOhm, 1/8 W
footprint RESISTOR_0805 (Chip Resistor, 2-Leads, Body 2,00x1,20mm, IPC Medium Density)
pins: 1, 2

## 0008051101
designator R?, comment 11 Ohm, 1/8 W
RES, size 0805, 11 Ohm, 1/8 W; Manufacture  Name: Vishay Dale; Manufacture  SN: CRCW080511R0FKTA; Resistance tolerance: +/-1%; Rated Power: 1/8 W; Resistance: 11 Ohm; Size: 0805; Mounting Technology: SMT; Datasheet: https://www.vishay.com/docs/20035/dcrcwe3.pdf; Supplier 1 Name: Mouser; Supplier 1 SN: 71-CRCW0805-11; Supplier 1 URL: https://www.mouser.vn/ProductDetail/Vishay-Dale/CRCW080511R0FKTA?qs=ZOFh%252BZEbFTDhCA9Hrh30Zw%3D%3D; Supplier 2 Name: Digi-Key; Supplier 2 SN: 541-11.0CTR-ND; Supplier 2 URL: https://www.digikey.com/en/products/detail/vishay-dale/CRCW080511R0FKEA/1175413; Supplier 3 Name: Thegioiic; Supplier 3 SN: N/A; Supplier 3 URL: N/A; Value: 11 Ohm, 1/8 W
footprint RESISTOR_0805 (Chip Resistor, 2-Leads, Body 2,00x1,20mm, IPC Medium Density)
pins: 1, 2

## 0008051105
designator R?, comment 11 Ohm, 1/8 W
RES, size 0805, 11 Ohm, 1/8 W; Manufacture  Name: Vishay Dale; Manufacture  SN: CRCW080511R0JNEAC; Resistance tolerance: +/-5%; Rated Power: 1/8 W; Resistance: 11 Ohm; Size: 0805; Mounting Technology: SMT; Datasheet: https://www.vishay.com/docs/28773/crcwce3.pdf; Supplier 1 Name: Mouser; Supplier 1 SN: 71-CRCW080511R0JNEA; Supplier 1 URL: https://www.mouser.vn/ProductDetail/Vishay-Dale/CRCW080511R0JNEA?qs=RG5hTW80OZI1ijzqZ4Fwzg%3D%3D; Supplier 2 Name: Digi-Key; Supplier 2 SN: CRCW080511R0JNEAC-ND; Supplier 2 URL: https://www.digikey.com/en/products/detail/vishay-dale/CRCW080511R0JNEAC/7923816; Supplier 3 Name: Thegioiic; Supplier 3 SN: N/A; Supplier 3 URL: https://www.thegioiic.com/dien-tro-11-ohm-0805-5-; Value: 11 Ohm, 1/8 W
footprint RESISTOR_0805 (Chip Resistor, 2-Leads, Body 2,00x1,20mm, IPC Medium Density)
pins: 1, 2

## 0008051111
designator R?, comment 110 Ohm, 1/8 W
RES, size 0805, 110 Ohm, 1/8 W; Manufacture  Name: Vishay Dale; Manufacture  SN: CRCW0805110RFKEA; Resistance tolerance: +/-1%; Rated Power: 1/8 W; Resistance: 110 Ohm; Size: 0805; Mounting Technology: SMT; Datasheet: https://www.vishay.com/docs/20035/dcrcwe3.pdf; Supplier 1 Name: Mouser; Supplier 1 SN: 71-CRCW0805110RFKEAC; Supplier 1 URL: https://www.mouser.vn/ProductDetail/Vishay-Dale/CRCW0805110RFKEAC?qs=E3Y5ESvWgWMNpf%252BYjZabPQ%3D%3D; Supplier 2 Name: Digi-Key; Supplier 2 SN: 541-110CTR-ND; Supplier 2 URL: https://www.digikey.com/en/products/detail/vishay-dale/CRCW0805110RFKEA/1175527; Supplier 3 Name: Thegioiic; Supplier 3 SN: N/A; Supplier 3 URL: N/A; Value: 110 Ohm, 1/8 W
footprint RESISTOR_0805 (Chip Resistor, 2-Leads, Body 2,00x1,20mm, IPC Medium Density)
pins: 1, 2

## 0008051115
designator R?, comment 110 Ohm, 1/8 W
RES, size 0805, 110 Ohm, 1/8 W; Manufacture  Name: Vishay Dale; Manufacture  SN: CRCW0805110RFKEA; Resistance tolerance: +/-5%; Rated Power: 1/8 W; Resistance: 110 Ohm; Size: 0805; Mounting Technology: SMT; Datasheet: https://www.vishay.com/docs/20035/dcrcwe3.pdf; Supplier 1 Name: Mouser; Supplier 1 SN: 71-CRCW0805110RJNEA; Supplier 1 URL: https://www.mouser.vn/ProductDetail/Vishay-Dale/CRCW0805110RJNEA?qs=RG5hTW80OZJqHt0GVT%2FlyA%3D%3D; Supplier 2 Name: Digi-Key; Supplier 2 SN: 541-110ATR-ND; Supplier 2 URL: https://www.digikey.com/en/products/detail/vishay-dale/CRCW0805110RJNEA/1175175; Supplier 3 Name: Thegioiic; Supplier 3 SN: N/A; Supplier 3 URL: https://www.thegioiic.com/dien-tro-110-kohm-0805-5; Value: 110 Ohm, 1/8 W
footprint RESISTOR_0805 (Chip Resistor, 2-Leads, Body 2,00x1,20mm, IPC Medium Density)
pins: 1, 2

## 0008051121
designator R?, comment 1.1 KOhm, 1/8 W
RES, size 0805, 1.1 KOhm, 1/8 W; Manufacture  Name: Vishay Dale; Manufacture  SN: CRCW08051K10FKEAC; Resistance tolerance: +/-1%; Rated Power: 1/8 W; Size: 0805; Mounting Technology: SMT; Datasheet: https://www.vishay.com/docs/28773/crcwce3.pdf; Resistance: 1.1 KOhm; Supplier 1 Name: Mouser; Supplier 1 SN: 71-CRCW0805-1.1K; Supplier 1 URL: https://www.mouser.vn/ProductDetail/Vishay-Dale/CRCW08051K10FKTA?qs=kcr0bk%252BxakCLwlR%2FUomifg%3D%3D; Supplier 2 Name: Digi-Key; Supplier 2 SN: 541-CRCW08051K10FKEACTR-ND; Supplier 2 URL: https://www.digikey.com/en/products/detail/vishay-dale/CRCW08051K10FKEAC/7922296; Supplier 3 Name: Thegioiic; Supplier 3 SN: N/A; Supplier 3 URL: N/A; Value: 1.1 KOhm, 1/8 W
footprint RESISTOR_0805 (Chip Resistor, 2-Leads, Body 2,00x1,20mm, IPC Medium Density)
pins: 1, 2

## 0008051125
designator R?, comment 1.1 KOhm, 1/8 W
RES, size 0805, 1.1 KOhm, 1/8 W; Manufacture  Name: Vishay Dale; Manufacture  SN: CRCW08051K10JNEA; Resistance tolerance: +/-5%; Rated Power: 1/8 W; Size: 0805; Mounting Technology: SMT; Datasheet: https://www.vishay.com/docs/28773/crcwce3.pdf; Resistance: 1.1 KOhm; Supplier 1 Name: Mouser; Supplier 1 SN: 71-CRCW08051K10JNEA; Supplier 1 URL: https://www.mouser.vn/ProductDetail/Vishay-Dale/CRCW08051K10JNEA?qs=DZvKvnD5UYUcTcO5Q3S%252BBw%3D%3D; Supplier 2 Name: Digi-Key; Supplier 2 SN: 541-1.1KATR-ND; Supplier 2 URL: https://www.digikey.com/en/products/detail/vishay-dale/CRCW08051K10JNEA/1175199; Supplier 3 Name: Thegioiic; Supplier 3 SN: N/A; Supplier 3 URL: https://www.thegioiic.com/dien-tro-1-1-kohm-0805-5; Value: 1.1 KOhm, 1/8 W
footprint RESISTOR_0805 (Chip Resistor, 2-Leads, Body 2,00x1,20mm, IPC Medium Density)
pins: 1, 2

## 0008051131
designator R?, comment 11 KOhm, 1/8 W
RES, size 0805, 11 KOhm, 1/8 W; Manufacture  Name: Vishay Dale; Manufacture  SN: CRCW080511K0FKEA; Resistance tolerance: +/-1%; Rated Power: 1/8 W; Resistance: 11 KOhm; Size: 0805; Mounting Technology: SMT; Datasheet: N/A; Supplier 1 Name: Mouser; Supplier 1 SN: 71-CRCW0805-11K-E3; Supplier 1 URL: https://www.mouser.vn/ProductDetail/Vishay-Dale/CRCW080511K0FKEA?qs=RG5hTW80OZLEp%2FQ5LVKZyw%3D%3D; Supplier 2 Name: Digi-Key; Supplier 2 SN: 541-11.0KCTR-ND; Supplier 2 URL: https://www.digikey.com/en/products/detail/vishay-dale/CRCW080511K0FKEA/1175755; Supplier 3 Name: Thegioiic; Supplier 3 SN: N/A; Supplier 3 URL: N/A; Value: 11 KOhm, 1/8 W
footprint RESISTOR_0805 (Chip Resistor, 2-Leads, Body 2,00x1,20mm, IPC Medium Density)
pins: 1, 2

## 0008051135
designator R?, comment 11 KOhm, 1/8 W
RES, size 0805, 11 KOhm, 1/8 W; Manufacture  Name: Vishay Dale; Manufacture  SN: CRCW080511K0JNEA; Resistance tolerance: +/-5%; Rated Power: 1/8 W; Resistance: 11 KOhm; Size: 0805; Mounting Technology: SMT; Datasheet: https://www.vishay.com/docs/20035/dcrcwe3.pdf; Supplier 1 Name: Mouser; Supplier 1 SN: 71-CRCW0805J-11K-E3; Supplier 1 URL: https://www.mouser.vn/ProductDetail/Vishay-Dale/CRCW080511K0JNEA?qs=RG5hTW80OZLjmZsjWPwJOg%3D%3D; Supplier 2 Name: Digi-Key; Supplier 2 SN: 541-11KATR-ND; Supplier 2 URL: https://www.digikey.com/en/products/detail/vishay-dale/CRCW080511K0JNEA/1175223; Supplier 3 Name: Thegioiic; Supplier 3 SN: N/A; Supplier 3 URL: https://www.thegioiic.com/dien-tro-11-kohm-0805-5; Value: 11 KOhm, 1/8 W
footprint RESISTOR_0805 (Chip Resistor, 2-Leads, Body 2,00x1,20mm, IPC Medium Density)
pins: 1, 2

## 0008051141
designator R?, comment 110 KOhm, 1/8 W
RES, size 0805, 110 KOhm, 1/8 W; Manufacture  Name: Vishay Dale; Manufacture  SN: CRCW0805110KFKEAC; Resistance tolerance: +/-1%; Rated Power: 1/8 W; Size: 0805; Mounting Technology: SMT; Datasheet: https://www.vishay.com/docs/28773/crcwce3.pdf; Resistance: 110 KOhm; Supplier 1 Name: Mouser; Supplier 1 SN: 71-CRCW0805-110K; Supplier 1 URL: https://www.mouser.vn/ProductDetail/Vishay-Dale/CRCW0805110KFKTA?qs=lAAKfumqcshWZsupBauqGw%3D%3D; Supplier 2 Name: Digi-Key; Supplier 2 SN: 541-CRCW0805110KFKEACTR-ND; Supplier 2 URL: https://www.digikey.com/en/products/detail/vishay-dale/CRCW0805110KFKEAC/7922420; Supplier 3 Name: Thegioiic; Supplier 3 SN: N/A; Supplier 3 URL: https://www.thegioiic.com/dien-tro-110-kohm-0805-1-; Value: 110 KOhm, 1/8 W
footprint RESISTOR_0805 (Chip Resistor, 2-Leads, Body 2,00x1,20mm, IPC Medium Density)
pins: 1, 2

## 0008051145
designator R?, comment 110 KOhm, 1/8 W
RES, size 0805, 110 KOhm, 1/8 W; Manufacture  Name: Vishay Dale; Manufacture  SN: CRCW0805110KJNEAC; Resistance tolerance: +/-5%; Rated Power: 1/8 W; Size: 0805; Mounting Technology: SMT; Datasheet: https://www.vishay.com/docs/28773/crcwce3.pdf; Resistance: 110 KOhm; Supplier 1 Name: Mouser; Supplier 1 SN: 71-CRCW0805110KJNEA; Supplier 1 URL: https://www.mouser.vn/ProductDetail/Vishay-Dale/CRCW0805110KJNEA?qs=LOX6nxTstiYWgn0ISge4KA%3D%3D; Supplier 2 Name: Digi-Key; Supplier 2 SN: CRCW0805110KJNEAC-ND; Supplier 2 URL: https://www.digikey.com/en/products/detail/vishay-dale/CRCW0805110KJNEAC/7923811; Supplier 3 Name: Thegioiic; Supplier 3 SN: N/A; Supplier 3 URL: https://www.thegioiic.com/dien-tro-110-kohm-0805-5; Value: 110 KOhm, 1/8 W
footprint RESISTOR_0805 (Chip Resistor, 2-Leads, Body 2,00x1,20mm, IPC Medium Density)
pins: 1, 2

## 0008051151
designator R?, comment 1.1 MOhm, 1/8 W
RES, size 0805, 1.1 MOhm, 1/8 W; Manufacture  Name: Vishay Dale; Manufacture  SN: CRCW08051M10FKEA; Resistance tolerance: +/-1%; Rated Power: 1/8 W; Size: 0805; Mounting Technology: SMT; Datasheet: https://www.vishay.com/docs/20035/dcrcwe3.pdf; Resistance: 1.1 MOhm; Supplier 1 Name: Mouser; Supplier 1 SN: 71-CRCW08051M10FKEA; Supplier 1 URL: https://www.mouser.vn/ProductDetail/Vishay-Dale/CRCW08051M10FKEA?qs=1CkV0QOCgMonU8HVfJOxww%3D%3D; Supplier 2 Name: Digi-Key; Supplier 2 SN: 541-1.10MCTR-ND; Supplier 2 URL: https://www.digikey.com/en/products/detail/vishay-dale/CRCW08051M10FKEA/1176020; Supplier 3 Name: Thegioiic; Supplier 3 SN: N/A; Supplier 3 URL: N/A; Value: 1.1 MOhm, 1/8 W
footprint RESISTOR_0805 (Chip Resistor, 2-Leads, Body 2,00x1,20mm, IPC Medium Density)
pins: 1, 2

## 0008051155
designator R?, comment 1.1 MOhm, 1/8 W
RES, size 0805, 1.1 MOhm, 1/8 W; Manufacture  Name: Vishay Dale; Manufacture  SN: CRCW08051M10JNEAC; Resistance tolerance: +/-5%; Rated Power: 1/8 W; Size: 0805; Mounting Technology: SMT; Datasheet: https://www.vishay.com/docs/28773/crcwce3.pdf; Resistance: 1.1 MOhm; Supplier 1 Name: Mouser; Supplier 1 SN: 71-CRCW0805J-1.1M; Supplier 1 URL: https://www.mouser.vn/ProductDetail/Vishay-Dale/CRCW08051M10JNTA?qs=5w%2FwobBlTbKF7Ocr2yYivA%3D%3D; Supplier 2 Name: Digi-Key; Supplier 2 SN: CRCW08051M10JNEAC-ND; Supplier 2 URL: https://www.digikey.com/en/products/detail/vishay-dale/CRCW08051M10JNEAC/7923848; Supplier 3 Name: Thegioiic; Supplier 3 SN: N/A; Supplier 3 URL: https://www.thegioiic.com/dien-tro-1-1-mohm-0805-5; Value: 1.1 MOhm, 1/8 W
footprint RESISTOR_0805 (Chip Resistor, 2-Leads, Body 2,00x1,20mm, IPC Medium Density)
pins: 1, 2

## 0008051201
designator R?, comment 12 Ohm, 1/8 W
RES, size 0805, 12 Ohm, 1/8 W; Manufacture  Name: Vishay Dale; Manufacture  SN: CRCW080512R0FKEA; Resistance tolerance: +/-1%; Rated Power: 1/8 W; Resistance: 12 Ohm; Size: 0805; Mounting Technology: SMT; Datasheet: N/A; Supplier 1 Name: Mouser; Supplier 1 SN: 71-CRCW080512R0FKEA; Supplier 1 URL: https://www.mouser.vn/ProductDetail/Vishay-Dale/CRCW080512R0FKEA?qs=0y7Riw94L4im3ZmXAo%252BFfQ%3D%3D; Supplier 2 Name: Digi-Key; Supplier 2 SN: 541-12.0CTR-ND; Supplier 2 URL: https://www.digikey.com/en/products/detail/vishay-dale/CRCW080512R0FKEA/1175417; Supplier 3 Name: Thegioiic; Supplier 3 SN: N/A; Supplier 3 URL: https://www.thegioiic.com/dien-tro-12-ohm-0805-1-; Value: 12 Ohm, 1/8 W
footprint RESISTOR_0805 (Chip Resistor, 2-Leads, Body 2,00x1,20mm, IPC Medium Density)
pins: 1, 2

## 0008051205
designator R?, comment 12 Ohm, 1/8 W
RES, size 0805, 12 Ohm, 1/8 W; Manufacture  Name: Vishay Dale; Manufacture  SN: CRCW080512R0JNEA; Resistance tolerance: +/-5%; Rated Power: 1/8 W; Resistance: 12 Ohm; Size: 0805; Mounting Technology: SMT; Datasheet: https://www.vishay.com/docs/20035/dcrcwe3.pdf; Supplier 1 Name: Mouser; Supplier 1 SN: 71-CRCW080512R0JNEA; Supplier 1 URL: https://www.mouser.vn/ProductDetail/Vishay-Dale/CRCW080512R0JNEA?qs=0y7Riw94L4hpzrfVlTNTMg%3D%3D; Supplier 2 Name: Digi-Key; Supplier 2 SN: 541-12ATR-ND; Supplier 2 URL: https://www.digikey.com/en/products/detail/vishay-dale/CRCW080512R0JNEA/1175152; Supplier 3 Name: Thegioiic; Supplier 3 SN: N/A; Supplier 3 URL: https://www.thegioiic.com/dien-tro-1-1-mohm-0805-5; Value: 12 Ohm, 1/8 W
footprint RESISTOR_0805 (Chip Resistor, 2-Leads, Body 2,00x1,20mm, IPC Medium Density)
pins: 1, 2

## 0008051211
designator R?, comment 120 Ohm, 1/8 W
RES, size 0805, 120 Ohm, 1/8 W; Manufacture  Name: Vishay Dale; Manufacture  SN: CRCW0805120RFKEAC; Resistance tolerance: +/-1%; Rated Power: 1/8 W; Resistance: 120 Ohm; Size: 0805; Mounting Technology: SMT; Datasheet: https://www.vishay.com/docs/28773/crcwce3.pdf; Supplier 1 Name: Mouser; Supplier 1 SN: 71-CRCW0805120RFKEAC; Supplier 1 URL: https://www.mouser.vn/ProductDetail/Vishay-Dale/CRCW0805120RFKEAC?qs=E3Y5ESvWgWNkSFxCW%252BJprQ%3D%3D; Supplier 2 Name: Digi-Key; Supplier 2 SN: 541-CRCW0805120RFKEACTR-ND; Supplier 2 URL: https://www.digikey.com/en/products/detail/vishay-dale/CRCW0805120RFKEAC/7922316; Supplier 3 Name: Thegioiic; Supplier 3 SN: N/A; Supplier 3 URL: N/A; Value: 120 Ohm, 1/8 W
footprint RESISTOR_0805 (Chip Resistor, 2-Leads, Body 2,00x1,20mm, IPC Medium Density)
pins: 1, 2

## 0008051215
designator R?, comment 120 Ohm, 1/8 W
RES, size 0805, 120 Ohm, 1/8 W; Manufacture  Name: Vishay Dale; Manufacture  SN: CRCW0805120RJNEA; Resistance tolerance: +/-5%; Rated Power: 1/8 W; Resistance: 120 Ohm; Size: 0805; Mounting Technology: SMT; Datasheet: https://www.vishay.com/docs/20035/dcrcwe3.pdf; Supplier 1 Name: Mouser; Supplier 1 SN: 71-CRCW0805120RJNEA; Supplier 1 URL: https://www.mouser.vn/ProductDetail/Vishay-Dale/CRCW0805120RJNEA?qs=RG5hTW80OZL%252BSuUGN6l0YA%3D%3D; Supplier 2 Name: Digi-Key; Supplier 2 SN: 541-120ATR-ND; Supplier 2 URL: https://www.digikey.com/en/products/detail/vishay-dale/CRCW0805120RJNEA/1175176; Supplier 3 Name: Thegioiic; Supplier 3 SN: N/A; Supplier 3 URL: https://www.thegioiic.com/dien-tro-120-ohm-0805-5-; Value: 120 Ohm, 1/8 W
footprint RESISTOR_0805 (Chip Resistor, 2-Leads, Body 2,00x1,20mm, IPC Medium Density)
pins: 1, 2

## 0008051221
designator R?, comment 1.2 KOhm, 1/8 W
RES, size 0805, 1.2 KOhm, 1/8 W; Manufacture  Name: Vishay Dale; Manufacture  SN: CRCW08051K20FKEAC; Resistance tolerance: +/-1%; Rated Power: 1/8 W; Size: 0805; Mounting Technology: SMT; Datasheet: https://www.vishay.com/docs/28773/crcwce3.pdf; Resistance: 1.2 KOhm; Supplier 1 Name: Mouser; Supplier 1 SN: 71-CRCW0805-1.2K; Supplier 1 URL: https://www.mouser.vn/ProductDetail/Vishay-Dale/CRCW08051K20FKTA?qs=xLmuQgtoMPPFT9OsB3td2Q%3D%3D; Supplier 2 Name: Digi-Key; Supplier 2 SN: 541-CRCW08051K20FKEACTR-ND; Supplier 2 URL: https://www.digikey.com/en/products/detail/vishay-dale/CRCW08051K20FKEAC/7922327; Supplier 3 Name: Thegioiic; Supplier 3 SN: N/A; Supplier 3 URL: https://www.thegioiic.com/dien-tro-1-2-kohm-0805-1-; Value: 1.2 KOhm, 1/8 W
footprint RESISTOR_0805 (Chip Resistor, 2-Leads, Body 2,00x1,20mm, IPC Medium Density)
pins: 1, 2

## 0008051225
designator R?, comment 1.2 KOhm, 1/8 W
RES, size 0805, 1.2 KOhm, 1/8 W; Manufacture  Name: Vishay Dale; Manufacture  SN: CRCW08051K20JNEA; Resistance tolerance: +/-5%; Rated Power: 1/8 W; Size: 0805; Mounting Technology: SMT; Datasheet: https://www.vishay.com/docs/20035/dcrcwe3.pdf; Resistance: 1.2 KOhm; Supplier 1 Name: Mouser; Supplier 1 SN: 71-CRCW0805J-1.2K; Supplier 1 URL: https://www.mouser.vn/ProductDetail/Vishay-Dale/CRCW08051K20JNTA?qs=ihJ2iVknB9v1dN2NZA89OA%3D%3D; Supplier 2 Name: Digi-Key; Supplier 2 SN: 541-1.2KATR-ND; Supplier 2 URL: https://www.digikey.com/en/products/detail/vishay-dale/CRCW08051K20JNEA/1175200; Supplier 3 Name: Thegioiic; Supplier 3 SN: N/A; Supplier 3 URL: https://www.thegioiic.com/dien-tro-1-2-kohm-0805-5; Value: 1.2 KOhm, 1/8 W
footprint RESISTOR_0805 (Chip Resistor, 2-Leads, Body 2,00x1,20mm, IPC Medium Density)
pins: 1, 2

## 0008051231
designator R?, comment 12 KOhm, 1/8 W
RES, size 0805, 12 KOhm, 1/8 W; Manufacture  Name: Vishay Dale; Manufacture  SN: CRCW080512K0FKEAC; Resistance tolerance: +/-1%; Rated Power: 1/8 W; Resistance: 12 KOhm; Size: 0805; Mounting Technology: SMT; Datasheet: https://www.vishay.com/docs/28773/crcwce3.pdf; Supplier 1 Name: Mouser; Supplier 1 SN: 71-CRCW080512K0FKEA; Supplier 1 URL: https://www.mouser.vn/ProductDetail/Vishay-Dale/CRCW080512K0FKEA?qs=0y7Riw94L4gQIm4gt5oa2A%3D%3D; Supplier 2 Name: Digi-Key; Supplier 2 SN: 541-CRCW080512K0FKEACTR-ND; Supplier 2 URL: https://www.digikey.com/en/products/detail/vishay-dale/CRCW080512K0FKEAC/7922348; Supplier 3 Name: Thegioiic; Supplier 3 SN: N/A; Supplier 3 URL: https://www.thegioiic.com/dien-tro-12-kohm-0805-1; Value: 12 KOhm, 1/8 W
footprint RESISTOR_0805 (Chip Resistor, 2-Leads, Body 2,00x1,20mm, IPC Medium Density)
pins: 1, 2

## 0008051235
designator R?, comment 12 KOhm, 1/8 W
RES, size 0805, 12 KOhm, 1/8 W; Manufacture  Name: Vishay Dale; Manufacture  SN: CRCW080512K0FKEAC; Resistance tolerance: +/-5%; Rated Power: 1/8 W; Resistance: 12 KOhm; Size: 0805; Mounting Technology: SMT; Datasheet: https://www.vishay.com/docs/20035/dcrcwe3.pdf; Supplier 1 Name: Mouser; Supplier 1 SN: 71-CRCW080512K0JNEA; Supplier 1 URL: https://www.mouser.vn/ProductDetail/Vishay-Dale/CRCW080512K0JNEA?qs=0y7Riw94L4j20XDG43nIlg%3D%3D; Supplier 2 Name: Digi-Key; Supplier 2 SN: 541-12KATR-ND; Supplier 2 URL: https://www.digikey.com/en/products/detail/vishay-dale/CRCW080512K0JNEA/1175224; Supplier 3 Name: Thegioiic; Supplier 3 SN: N/A; Supplier 3 URL: https://www.vishay.com/docs/20035/dcrcwe3.pdf; Value: 12 KOhm, 1/8 W
footprint RESISTOR_0805 (Chip Resistor, 2-Leads, Body 2,00x1,20mm, IPC Medium Density)
pins: 1, 2